# Altium footprint library DF51K-16DP-2DS(800).PcbLib: 1 footprints
Each footprint in its own frame and in the unit in brackets; x right, y up, seen from the top. Pads: shape width x height; smd on the part's side, far side on the other; paste and mask are expansions set on the pad; w line width, h text height; cw(c..) or ccw(c..) is an arc to the next point about the centre after c.
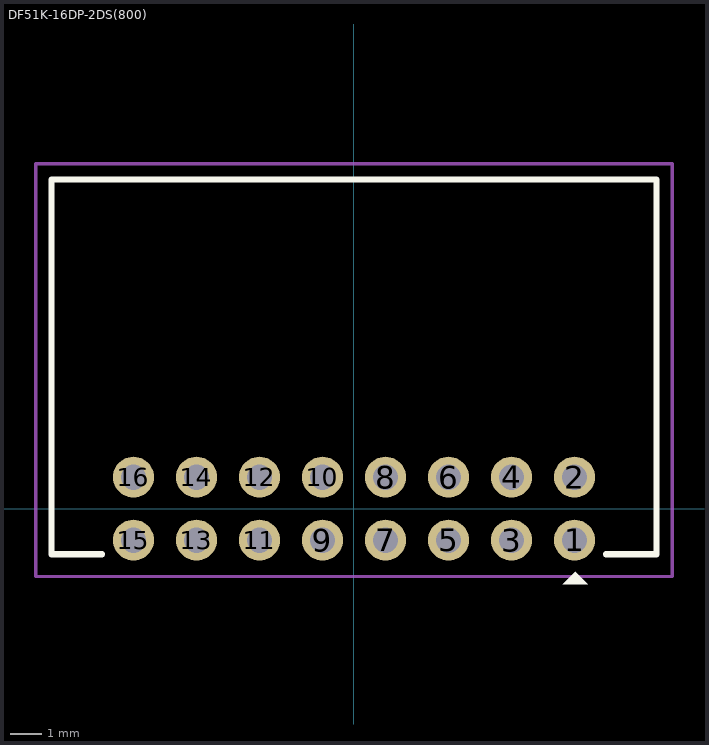
[diagram p0: the footprint, top view; thin cyan lines are the x and y axes]

## DF51K-16DP-2DS(800) [mm]
pads (16):
  round 1.3 hole 0.8: 1(7,-1) 2(7,1) 3(5,-1) 4(5,1) 5(3,-1) 6(3,1) 7(1,-1) 8(1,1) 9(-1,-1) 10(-1,1) 11(-3,-1) 12(-3,1) 13(-5,-1) 14(-5,1) 15(-7,-1) 16(-7,1)
Top Overlay:
  region: 7.425,-2.4 6.625,-2.4 7.025,-2
  lines w0.2: -8,-1.45 -9.6,-1.45 -9.6,10.45 9.6,10.45 9.6,-1.45 8,-1.45
Top Courtyard:
  lines w0.1: -10.1,-2.15 -10.1,10.95 10.1,10.95 10.1,-2.15 -7,-2.15 -10.1,-2.15
3D body "DF51K-16DP-2DS(800)--3DModel-STEP-1.STEP": height 8.83, standoff -2.92, extent -9.599,-1.415 9.601,10.485